# Altium integrated library Linear Technology Operational Amplifiers (LT1000).IntLib: 2280 symbols (part 3 of 79)
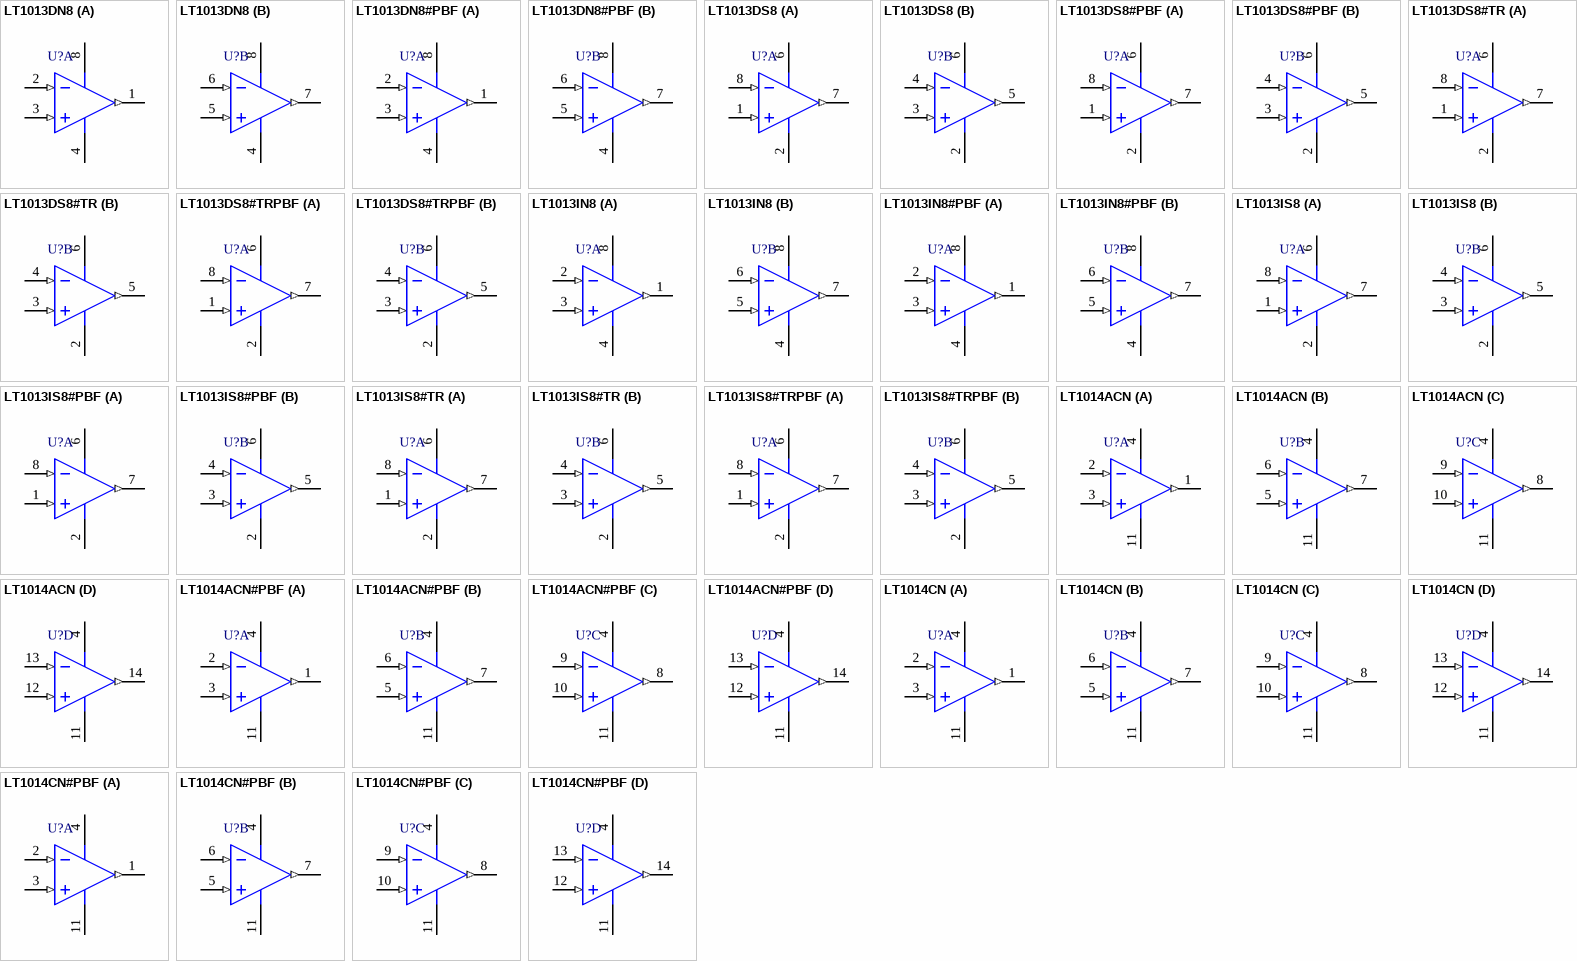
[diagram p107: symbols LT1013DN8 to LT1014CN#PBF]

## LT1013DN8#PBF
designator U?
Dual Channel, Precision Single Supply Operational Amplifier, 0.8 MHz Typical GBW, 0.4 V/us Typical SR, 4 to 44 V, 8-Pin DIP (N8-8), Commerical, Pb-Free; Linear Technology Part Number: LT1013; Manufacturer: Linear Technology; PartNumber: LT1013DN8#PBF; Channels (#): 2; GBW (MHz) Typical: 0.8; Is (mA) Typical: 0.35; SR (V/us) Typical: 0.4; Vos (mV) Typical: 0.04; Vs Max (V): 44; Vs Min (V): 4; DatasheetVersion: Rev. D; PackageVersion: Rev I; PackageReference: LT-N8-8; PackageDescription: 8-Lead PDIP, Body 10.16 x 6.48 mm, Pitch 2.54 mm; Supplier 1: Digi-Key; Supplier Part Number 1: LT1013DN8#PBF-ND; Supplier 2: Farnell; Supplier Part Number 2: 9559299; Supplier 3: Newark; Supplier Part Number 3: 57M0825; RoHS: Pb-Free; Type: VFB; Mounting Technology: Surface Mount; ComponentLink1Description: Manufacturer URL; ComponentLink1URL: http://www.linear.com/; ComponentLink2Description: Datasheet; ComponentLink2URL: http://cds.linear.com/docs/en/datasheet/10134fd.pdf; ComponentLink3Description: Package Specification; ComponentLink3URL: http://cds.linear.com/docs/en/packaging/05081510_I_N8.pdf
footprint LT-N8-8 (DIP, 8-Leads, Body 10.16x6.48mm, Pitch 2.54mm)
pins on every part: 4 V- (power), 8 V+ (power)
part A pins: 1 OUTPUT A (out), 2 -IN A (in), 3 +IN A (in)
part B pins: 5 +IN B (in), 6 -IN B (in), 7 OUTPUT B (out)

## LT1013DS8
designator U?
Dual Channel, Precision Single Supply Operational Amplifier, 0.8 MHz Typical GBW, 0.4 V/us Typical SR, 4 to 44 V, 8-Pin SOIC (S8-8), Commerical; Linear Technology Part Number: LT1013; Manufacturer: Linear Technology; PartNumber: LT1013DS8; Channels (#): 2; GBW (MHz) Typical: 0.8; Is (mA) Typical: 0.35; SR (V/us) Typical: 0.4; Vos (mV) Typical: 0.04; Vs Max (V): 44; Vs Min (V): 4; DatasheetVersion: Rev. D; PackageVersion: Rev G; PackageReference: LT-S8-8; PackageDescription: 8-Pin Plastic Small Outline, Body 4.9 x 3.9 mm, Pitch 1.27 mm; Supplier 1: Digi-Key; Supplier Part Number 1: LT1013DS8-ND; Type: VFB; Mounting Technology: Surface Mount; ComponentLink1Description: Manufacturer URL; ComponentLink1URL: http://www.linear.com/; ComponentLink2Description: Datasheet; ComponentLink2URL: http://cds.linear.com/docs/en/datasheet/10134fd.pdf; ComponentLink3Description: Package Specification; ComponentLink3URL: http://cds.linear.com/docs/en/packaging/05081610_G_SO8.pdf
footprint LT-S8-8_N (SOIC, 8-Leads, Body 4.9x3.9mm, Pitch 1.27mm, IPC Medium Density)
footprint LT-S8-8_L (SOIC, 8-Leads, Body 4.9x3.9mm, Pitch 1.27mm, IPC High Density)
footprint LT-S8-8_M (SOIC, 8-Leads, Body 4.9x3.9mm, Pitch 1.27mm, IPC Low Density)
pins on every part: 2 V- (power), 6 V+ (power)
part A pins: 1 +INA (in), 7 OUTA (out), 8 -INA (in)
part B pins: 3 +INB (in), 4 -INB (in), 5 OUTB (out)

## LT1013DS8#PBF
designator U?
Dual Channel, Precision Single Supply Operational Amplifier, 0.8 MHz Typical GBW, 0.4 V/us Typical SR, 4 to 44 V, 8-Pin SOIC (S8-8), Commerical, Pb-Free; Linear Technology Part Number: LT1013; Manufacturer: Linear Technology; PartNumber: LT1013DS8#PBF; Channels (#): 2; GBW (MHz) Typical: 0.8; Is (mA) Typical: 0.35; SR (V/us) Typical: 0.4; Vos (mV) Typical: 0.04; Vs Max (V): 44; Vs Min (V): 4; DatasheetVersion: Rev. D; PackageVersion: Rev G; PackageReference: LT-S8-8; PackageDescription: 8-Pin Plastic Small Outline, Body 4.9 x 3.9 mm, Pitch 1.27 mm; Supplier 1: Digi-Key; Supplier Part Number 1: LT1013DS8#PBF-ND; Supplier 2: Farnell; Supplier Part Number 2: 9559302; Supplier 3: Newark; Supplier Part Number 3: 57M0827; RoHS: Pb-Free; Type: VFB; Mounting Technology: Surface Mount; ComponentLink1Description: Manufacturer URL; ComponentLink1URL: http://www.linear.com/; ComponentLink2Description: Datasheet; ComponentLink2URL: http://cds.linear.com/docs/en/datasheet/10134fd.pdf; ComponentLink3Description: Package Specification; ComponentLink3URL: http://cds.linear.com/docs/en/packaging/05081610_G_SO8.pdf
footprint LT-S8-8_N (SOIC, 8-Leads, Body 4.9x3.9mm, Pitch 1.27mm, IPC Medium Density)
footprint LT-S8-8_L (SOIC, 8-Leads, Body 4.9x3.9mm, Pitch 1.27mm, IPC High Density)
footprint LT-S8-8_M (SOIC, 8-Leads, Body 4.9x3.9mm, Pitch 1.27mm, IPC Low Density)
pins on every part: 2 V- (power), 6 V+ (power)
part A pins: 1 +INA (in), 7 OUTA (out), 8 -INA (in)
part B pins: 3 +INB (in), 4 -INB (in), 5 OUTB (out)

## LT1013DS8#TR
designator U?
Dual Channel, Precision Single Supply Operational Amplifier, 0.8 MHz Typical GBW, 0.4 V/us Typical SR, 4 to 44 V, 8-Pin SOIC (S8-8), Commerical, Reel; Linear Technology Part Number: LT1013; Manufacturer: Linear Technology; PartNumber: LT1013DS8#TR; Channels (#): 2; GBW (MHz) Typical: 0.8; Is (mA) Typical: 0.35; SR (V/us) Typical: 0.4; Vos (mV) Typical: 0.04; Vs Max (V): 44; Vs Min (V): 4; DatasheetVersion: Rev. D; PackageVersion: Rev G; PackageReference: LT-S8-8; PackageDescription: 8-Pin Plastic Small Outline, Body 4.9 x 3.9 mm, Pitch 1.27 mm; Supplier 1: Digi-Key; Supplier Part Number 1: LT1013DS8TR-ND; Supplier 2: Newark; Supplier Part Number 2: 57M0828; Packing: Reel; Type: VFB; Mounting Technology: Surface Mount; ComponentLink1Description: Manufacturer URL; ComponentLink1URL: http://www.linear.com/; ComponentLink2Description: Datasheet; ComponentLink2URL: http://cds.linear.com/docs/en/datasheet/10134fd.pdf; ComponentLink3Description: Package Specification; ComponentLink3URL: http://cds.linear.com/docs/en/packaging/05081610_G_SO8.pdf
footprint LT-S8-8_N (SOIC, 8-Leads, Body 4.9x3.9mm, Pitch 1.27mm, IPC Medium Density)
footprint LT-S8-8_L (SOIC, 8-Leads, Body 4.9x3.9mm, Pitch 1.27mm, IPC High Density)
footprint LT-S8-8_M (SOIC, 8-Leads, Body 4.9x3.9mm, Pitch 1.27mm, IPC Low Density)
pins on every part: 2 V- (power), 6 V+ (power)
part A pins: 1 +INA (in), 7 OUTA (out), 8 -INA (in)
part B pins: 3 +INB (in), 4 -INB (in), 5 OUTB (out)

## LT1013DS8#TRPBF
designator U?
Dual Channel, Precision Single Supply Operational Amplifier, 0.8 MHz Typical GBW, 0.4 V/us Typical SR, 4 to 44 V, 8-Pin SOIC (S8-8), Commerical, Pb-Free, Reel; Linear Technology Part Number: LT1013; Manufacturer: Linear Technology; PartNumber: LT1013DS8#TRPBF; Channels (#): 2; GBW (MHz) Typical: 0.8; Is (mA) Typical: 0.35; SR (V/us) Typical: 0.4; Vos (mV) Typical: 0.04; Vs Max (V): 44; Vs Min (V): 4; DatasheetVersion: Rev. D; PackageVersion: Rev G; PackageReference: LT-S8-8; PackageDescription: 8-Pin Plastic Small Outline, Body 4.9 x 3.9 mm, Pitch 1.27 mm; Supplier 1: Digi-Key; Supplier Part Number 1: LT1013DS8#TRPBFTR-ND; Supplier 2: Digi-Key; Supplier Part Number 2: LT1013DS8#TRPBFCT-ND; Supplier 3: Digi-Key; Supplier Part Number 3: LT1013DS8#TRPBFDKR-ND; Supplier 4: Newark; Supplier Part Number 4: 57M0829; Packing: Reel; RoHS: Pb-Free; Type: VFB; Mounting Technology: Surface Mount; ComponentLink1Description: Manufacturer URL; ComponentLink1URL: http://www.linear.com/; ComponentLink2Description: Datasheet; ComponentLink2URL: http://cds.linear.com/docs/en/datasheet/10134fd.pdf; ComponentLink3Description: Package Specification; ComponentLink3URL: http://cds.linear.com/docs/en/packaging/05081610_G_SO8.pdf
footprint LT-S8-8_N (SOIC, 8-Leads, Body 4.9x3.9mm, Pitch 1.27mm, IPC Medium Density)
footprint LT-S8-8_L (SOIC, 8-Leads, Body 4.9x3.9mm, Pitch 1.27mm, IPC High Density)
footprint LT-S8-8_M (SOIC, 8-Leads, Body 4.9x3.9mm, Pitch 1.27mm, IPC Low Density)
pins on every part: 2 V- (power), 6 V+ (power)
part A pins: 1 +INA (in), 7 OUTA (out), 8 -INA (in)
part B pins: 3 +INB (in), 4 -INB (in), 5 OUTB (out)

## LT1013IN8
designator U?
Dual Channel, Precision Single Supply Operational Amplifier, 0.8 MHz Typical GBW, 0.4 V/us Typical SR, 4 to 44 V, 8-Pin DIP (N8-8), Industrial; Linear Technology Part Number: LT1013; Manufacturer: Linear Technology; PartNumber: LT1013IN8; Channels (#): 2; GBW (MHz) Typical: 0.8; Is (mA) Typical: 0.35; SR (V/us) Typical: 0.4; Vos (mV) Typical: 0.04; Vs Max (V): 44; Vs Min (V): 4; DatasheetVersion: Rev. D; PackageVersion: Rev I; PackageReference: LT-N8-8; PackageDescription: 8-Lead PDIP, Body 10.16 x 6.48 mm, Pitch 2.54 mm; Supplier 1: Digi-Key; Supplier Part Number 1: LT1013IN8-ND; Supplier 2: Newark; Supplier Part Number 2: 57M0830; Type: VFB; Mounting Technology: Surface Mount; ComponentLink1Description: Manufacturer URL; ComponentLink1URL: http://www.linear.com/; ComponentLink2Description: Datasheet; ComponentLink2URL: http://cds.linear.com/docs/en/datasheet/10134fd.pdf; ComponentLink3Description: Package Specification; ComponentLink3URL: http://cds.linear.com/docs/en/packaging/05081510_I_N8.pdf
footprint LT-N8-8 (DIP, 8-Leads, Body 10.16x6.48mm, Pitch 2.54mm)
pins on every part: 4 V- (power), 8 V+ (power)
part A pins: 1 OUTPUT A (out), 2 -IN A (in), 3 +IN A (in)
part B pins: 5 +IN B (in), 6 -IN B (in), 7 OUTPUT B (out)

## LT1013IN8#PBF
designator U?
Dual Channel, Precision Single Supply Operational Amplifier, 0.8 MHz Typical GBW, 0.4 V/us Typical SR, 4 to 44 V, 8-Pin DIP (N8-8), Industrial, Pb-Free; Linear Technology Part Number: LT1013; Manufacturer: Linear Technology; PartNumber: LT1013IN8#PBF; Channels (#): 2; GBW (MHz) Typical: 0.8; Is (mA) Typical: 0.35; SR (V/us) Typical: 0.4; Vos (mV) Typical: 0.04; Vs Max (V): 44; Vs Min (V): 4; DatasheetVersion: Rev. D; PackageVersion: Rev I; PackageReference: LT-N8-8; PackageDescription: 8-Lead PDIP, Body 10.16 x 6.48 mm, Pitch 2.54 mm; Supplier 1: Digi-Key; Supplier Part Number 1: LT1013IN8#PBF-ND; Supplier 2: Farnell; Supplier Part Number 2: 2211382; Supplier 3: Newark; Supplier Part Number 3: 57M0831; RoHS: Pb-Free; Type: VFB; Mounting Technology: Through Hole; ComponentLink1Description: Manufacturer URL; ComponentLink1URL: http://www.linear.com/; ComponentLink2Description: Datasheet; ComponentLink2URL: http://cds.linear.com/docs/en/datasheet/10134fd.pdf; ComponentLink3Description: Package Specification; ComponentLink3URL: http://cds.linear.com/docs/en/packaging/05081510_I_N8.pdf
footprint LT-N8-8 (DIP, 8-Leads, Body 10.16x6.48mm, Pitch 2.54mm)
pins on every part: 4 V- (power), 8 V+ (power)
part A pins: 1 OUTPUT A (out), 2 -IN A (in), 3 +IN A (in)
part B pins: 5 +IN B (in), 6 -IN B (in), 7 OUTPUT B (out)

## LT1013IS8
designator U?
Dual Channel, Precision Single Supply Operational Amplifier, 0.8 MHz Typical GBW, 0.4 V/us Typical SR, 4 to 44 V, 8-Pin SOIC (S8-8), Industrial; Linear Technology Part Number: LT1013; Manufacturer: Linear Technology; PartNumber: LT1013IS8; Channels (#): 2; GBW (MHz) Typical: 0.8; Is (mA) Typical: 0.35; SR (V/us) Typical: 0.4; Vos (mV) Typical: 0.04; Vs Max (V): 44; Vs Min (V): 4; DatasheetVersion: Rev. D; PackageVersion: Rev G; PackageReference: LT-S8-8; PackageDescription: 8-Pin Plastic Small Outline, Body 4.9 x 3.9 mm, Pitch 1.27 mm; Supplier 1: Digi-Key; Supplier Part Number 1: LT1013IS8-ND; Supplier 2: Newark; Supplier Part Number 2: 57M0832; Type: VFB; Mounting Technology: Surface Mount; ComponentLink1Description: Manufacturer URL; ComponentLink1URL: http://www.linear.com/; ComponentLink2Description: Datasheet; ComponentLink2URL: http://cds.linear.com/docs/en/datasheet/10134fd.pdf; ComponentLink3Description: Package Specification; ComponentLink3URL: http://cds.linear.com/docs/en/packaging/05081610_G_SO8.pdf
footprint LT-S8-8_N (SOIC, 8-Leads, Body 4.9x3.9mm, Pitch 1.27mm, IPC Medium Density)
footprint LT-S8-8_L (SOIC, 8-Leads, Body 4.9x3.9mm, Pitch 1.27mm, IPC High Density)
footprint LT-S8-8_M (SOIC, 8-Leads, Body 4.9x3.9mm, Pitch 1.27mm, IPC Low Density)
pins on every part: 2 V- (power), 6 V+ (power)
part A pins: 1 +INA (in), 7 OUTA (out), 8 -INA (in)
part B pins: 3 +INB (in), 4 -INB (in), 5 OUTB (out)

## LT1013IS8#PBF
designator U?
Dual Channel, Precision Single Supply Operational Amplifier, 0.8 MHz Typical GBW, 0.4 V/us Typical SR, 4 to 44 V, 8-Pin SOIC (S8-8), Industrial, Pb-Free; Linear Technology Part Number: LT1013; Manufacturer: Linear Technology; PartNumber: LT1013IS8#PBF; Channels (#): 2; GBW (MHz) Typical: 0.8; Is (mA) Typical: 0.35; SR (V/us) Typical: 0.4; Vos (mV) Typical: 0.04; Vs Max (V): 44; Vs Min (V): 4; DatasheetVersion: Rev. D; PackageVersion: Rev G; PackageReference: LT-S8-8; PackageDescription: 8-Pin Plastic Small Outline, Body 4.9 x 3.9 mm, Pitch 1.27 mm; Supplier 1: Digi-Key; Supplier Part Number 1: LT1013IS8#PBF-ND; Supplier 2: Farnell; Supplier Part Number 2: 2102618; Supplier 3: Newark; Supplier Part Number 3: 57M0833; RoHS: Pb-Free; Type: VFB; Mounting Technology: Surface Mount; ComponentLink1Description: Manufacturer URL; ComponentLink1URL: http://www.linear.com/; ComponentLink2Description: Datasheet; ComponentLink2URL: http://cds.linear.com/docs/en/datasheet/10134fd.pdf; ComponentLink3Description: Package Specification; ComponentLink3URL: http://cds.linear.com/docs/en/packaging/05081610_G_SO8.pdf
footprint LT-S8-8_N (SOIC, 8-Leads, Body 4.9x3.9mm, Pitch 1.27mm, IPC Medium Density)
footprint LT-S8-8_L (SOIC, 8-Leads, Body 4.9x3.9mm, Pitch 1.27mm, IPC High Density)
footprint LT-S8-8_M (SOIC, 8-Leads, Body 4.9x3.9mm, Pitch 1.27mm, IPC Low Density)
pins on every part: 2 V- (power), 6 V+ (power)
part A pins: 1 +INA (in), 7 OUTA (out), 8 -INA (in)
part B pins: 3 +INB (in), 4 -INB (in), 5 OUTB (out)

## LT1013IS8#TR
designator U?
Dual Channel, Precision Single Supply Operational Amplifier, 0.8 MHz Typical GBW, 0.4 V/us Typical SR, 4 to 44 V, 8-Pin SOIC (S8-8), Industrial, Reel; Linear Technology Part Number: LT1013; Manufacturer: Linear Technology; PartNumber: LT1013IS8#TR; Channels (#): 2; GBW (MHz) Typical: 0.8; Is (mA) Typical: 0.35; SR (V/us) Typical: 0.4; Vos (mV) Typical: 0.04; Vs Max (V): 44; Vs Min (V): 4; DatasheetVersion: Rev. D; PackageVersion: Rev G; PackageReference: LT-S8-8; PackageDescription: 8-Pin Plastic Small Outline, Body 4.9 x 3.9 mm, Pitch 1.27 mm; Supplier 1: Digi-Key; Supplier Part Number 1: LT1013IS8#TR-ND; Supplier 2: Newark; Supplier Part Number 2: 57M0834; Packing: Reel; Type: VFB; Mounting Technology: Surface Mount; ComponentLink1Description: Manufacturer URL; ComponentLink1URL: http://www.linear.com/; ComponentLink2Description: Datasheet; ComponentLink2URL: http://cds.linear.com/docs/en/datasheet/10134fd.pdf; ComponentLink3Description: Package Specification; ComponentLink3URL: http://cds.linear.com/docs/en/packaging/05081610_G_SO8.pdf
footprint LT-S8-8_N (SOIC, 8-Leads, Body 4.9x3.9mm, Pitch 1.27mm, IPC Medium Density)
footprint LT-S8-8_L (SOIC, 8-Leads, Body 4.9x3.9mm, Pitch 1.27mm, IPC High Density)
footprint LT-S8-8_M (SOIC, 8-Leads, Body 4.9x3.9mm, Pitch 1.27mm, IPC Low Density)
pins on every part: 2 V- (power), 6 V+ (power)
part A pins: 1 +INA (in), 7 OUTA (out), 8 -INA (in)
part B pins: 3 +INB (in), 4 -INB (in), 5 OUTB (out)

## LT1013IS8#TRPBF
designator U?
Dual Channel, Precision Single Supply Operational Amplifier, 0.8 MHz Typical GBW, 0.4 V/us Typical SR, 4 to 44 V, 8-Pin SOIC (S8-8), Industrial, Pb-Free, Reel; Linear Technology Part Number: LT1013; Manufacturer: Linear Technology; PartNumber: LT1013IS8#TRPBF; Channels (#): 2; GBW (MHz) Typical: 0.8; Is (mA) Typical: 0.35; SR (V/us) Typical: 0.4; Vos (mV) Typical: 0.04; Vs Max (V): 44; Vs Min (V): 4; DatasheetVersion: Rev. D; PackageVersion: Rev G; PackageReference: LT-S8-8; PackageDescription: 8-Pin Plastic Small Outline, Body 4.9 x 3.9 mm, Pitch 1.27 mm; Supplier 1: Digi-Key; Supplier Part Number 1: LT1013IS8#TRPBF-ND; Supplier 2: Newark; Supplier Part Number 2: 57M0835; Packing: Reel; RoHS: Pb-Free; Type: VFB; Mounting Technology: Surface Mount; ComponentLink1Description: Manufacturer URL; ComponentLink1URL: http://www.linear.com/; ComponentLink2Description: Datasheet; ComponentLink2URL: http://cds.linear.com/docs/en/datasheet/10134fd.pdf; ComponentLink3Description: Package Specification; ComponentLink3URL: http://cds.linear.com/docs/en/packaging/05081610_G_SO8.pdf
footprint LT-S8-8_N (SOIC, 8-Leads, Body 4.9x3.9mm, Pitch 1.27mm, IPC Medium Density)
footprint LT-S8-8_L (SOIC, 8-Leads, Body 4.9x3.9mm, Pitch 1.27mm, IPC High Density)
footprint LT-S8-8_M (SOIC, 8-Leads, Body 4.9x3.9mm, Pitch 1.27mm, IPC Low Density)
pins on every part: 2 V- (power), 6 V+ (power)
part A pins: 1 +INA (in), 7 OUTA (out), 8 -INA (in)
part B pins: 3 +INB (in), 4 -INB (in), 5 OUTB (out)

## LT1014ACN
designator U?
Quad Channel, Precision Single Supply Operational Amplifier, 0.8 MHz Typical GBW, 0.4 V/us Typical SR, 4 to 44 V, 14-Pin DIP (N-14), Commerical; Linear Technology Part Number: LT1014; Manufacturer: Linear Technology; PartNumber: LT1014ACN; Channels (#): 4; GBW (MHz) Typical: 0.8; Is (mA) Typical: 0.35; SR (V/us) Typical: 0.4; Vos (mV) Typical: 0.04; Vs Max (V): 44; DatasheetVersion: Rev. D; PackageVersion: Rev I; PackageReference: LT-N-14; PackageDescription: 14-Lead PDIP, Body 19.558 x 6.477 mm, Pitch 2.54 mm; Supplier 1: Digi-Key; Supplier Part Number 1: LT1014ACN-ND; Supplier 2: Newark; Supplier Part Number 2: 57M0836; Type: VFB; Vs Min (V): 4; Mounting Technology: Through Hole; ComponentLink1Description: Manufacturer URL; ComponentLink1URL: http://www.linear.com/; ComponentLink2Description: Datasheet; ComponentLink2URL: http://cds.linear.com/docs/en/datasheet/10134fd.pdf; ComponentLink3Description: Package Specification; ComponentLink3URL: http://cds.linear.com/docs/en/packaging/05081510_I_N14.pdf
footprint LT-N-14 (DIP, 14-Leads, Body 19.558x6.477mm, Pitch 2.54mm)
pins on every part: 4 V+ (power), 11 V- (power)
part A pins: 1 OUTPUT A (out), 2 -IN A (in), 3 +IN A (in)
part B pins: 5 +IN B (in), 6 -IN B (in), 7 OUTPUT B (out)
part C pins: 8 OUTPUT C (out), 9 -IN C (in), 10 +IN C (in)
part D pins: 12 +IN D (in), 13 -IN D (in), 14 OUTPUT D (out)

## LT1014ACN#PBF
designator U?
Quad Channel, Precision Single Supply Operational Amplifier, 0.8 MHz Typical GBW, 0.4 V/us Typical SR, 4 to 44 V, 14-Pin DIP (N-14), Commerical, Pb-Free; Linear Technology Part Number: LT1014; Manufacturer: Linear Technology; PartNumber: LT1014ACN#PBF; Channels (#): 4; GBW (MHz) Typical: 0.8; Is (mA) Typical: 0.35; SR (V/us) Typical: 0.4; Vos (mV) Typical: 0.04; Vs Max (V): 44; DatasheetVersion: Rev. D; PackageVersion: Rev I; PackageReference: LT-N-14; PackageDescription: 14-Lead PDIP, Body 19.558 x 6.477 mm, Pitch 2.54 mm; Supplier 1: Digi-Key; Supplier Part Number 1: LT1014ACN#PBF-ND; Supplier 2: Farnell; Supplier Part Number 2: 2211383; Supplier 3: Newark; Supplier Part Number 3: 57M0837; RoHS: Pb-Free; Type: VFB; Vs Min (V): 4; Mounting Technology: Through Hole; ComponentLink1Description: Manufacturer URL; ComponentLink1URL: http://www.linear.com/; ComponentLink2Description: Datasheet; ComponentLink2URL: http://cds.linear.com/docs/en/datasheet/10134fd.pdf; ComponentLink3Description: Package Specification; ComponentLink3URL: http://cds.linear.com/docs/en/packaging/05081510_I_N14.pdf
footprint LT-N-14 (DIP, 14-Leads, Body 19.558x6.477mm, Pitch 2.54mm)
pins on every part: 4 V+ (power), 11 V- (power)
part A pins: 1 OUTPUT A (out), 2 -IN A (in), 3 +IN A (in)
part B pins: 5 +IN B (in), 6 -IN B (in), 7 OUTPUT B (out)
part C pins: 8 OUTPUT C (out), 9 -IN C (in), 10 +IN C (in)
part D pins: 12 +IN D (in), 13 -IN D (in), 14 OUTPUT D (out)

## LT1014CN
designator U?
Quad Channel, Precision Single Supply Operational Amplifier, 0.8 MHz Typical GBW, 0.4 V/us Typical SR, 4 to 44 V, 14-Pin DIP (N-14), Commerical; Linear Technology Part Number: LT1014; Manufacturer: Linear Technology; PartNumber: LT1014CN; Channels (#): 4; GBW (MHz) Typical: 0.8; Is (mA) Typical: 0.35; SR (V/us) Typical: 0.4; Vos (mV) Typical: 0.04; Vs Max (V): 44; DatasheetVersion: Rev. D; PackageVersion: Rev I; PackageReference: LT-N-14; PackageDescription: 14-Lead PDIP, Body 19.558 x 6.477 mm, Pitch 2.54 mm; Supplier 1: Digi-Key; Supplier Part Number 1: LT1014CNLT-ND; Supplier 2: Newark; Supplier Part Number 2: 57M0838; Type: VFB; Vs Min (V): 4; Mounting Technology: Through Hole; ComponentLink1Description: Manufacturer URL; ComponentLink1URL: http://www.linear.com/; ComponentLink2Description: Datasheet; ComponentLink2URL: http://cds.linear.com/docs/en/datasheet/10134fd.pdf; ComponentLink3Description: Package Specification; ComponentLink3URL: http://cds.linear.com/docs/en/packaging/05081510_I_N14.pdf
footprint LT-N-14 (DIP, 14-Leads, Body 19.558x6.477mm, Pitch 2.54mm)
pins on every part: 4 V+ (power), 11 V- (power)
part A pins: 1 OUTPUT A (out), 2 -IN A (in), 3 +IN A (in)
part B pins: 5 +IN B (in), 6 -IN B (in), 7 OUTPUT B (out)
part C pins: 8 OUTPUT C (out), 9 -IN C (in), 10 +IN C (in)
part D pins: 12 +IN D (in), 13 -IN D (in), 14 OUTPUT D (out)

## LT1014CN#PBF
designator U?
Quad Channel, Precision Single Supply Operational Amplifier, 0.8 MHz Typical GBW, 0.4 V/us Typical SR, 4 to 44 V, 14-Pin DIP (N-14), Commerical, Pb-Free; Linear Technology Part Number: LT1014; Manufacturer: Linear Technology; PartNumber: LT1014CN#PBF; Channels (#): 4; GBW (MHz) Typical: 0.8; Is (mA) Typical: 0.35; SR (V/us) Typical: 0.4; Vos (mV) Typical: 0.04; Vs Max (V): 44; DatasheetVersion: Rev. D; PackageVersion: Rev I; PackageReference: LT-N-14; PackageDescription: 14-Lead PDIP, Body 19.558 x 6.477 mm, Pitch 2.54 mm; Supplier 1: Digi-Key; Supplier Part Number 1: LT1014CN#PBF-ND; Supplier 2: Farnell; Supplier Part Number 2: 9559310; Supplier 3: Newark; Supplier Part Number 3: 57M0839; RoHS: Pb-Free; Type: VFB; Vs Min (V): 4; Mounting Technology: Through Hole; ComponentLink1Description: Manufacturer URL; ComponentLink1URL: http://www.linear.com/; ComponentLink2Description: Datasheet; ComponentLink2URL: http://cds.linear.com/docs/en/datasheet/10134fd.pdf; ComponentLink3Description: Package Specification; ComponentLink3URL: http://cds.linear.com/docs/en/packaging/05081510_I_N14.pdf
footprint LT-N-14 (DIP, 14-Leads, Body 19.558x6.477mm, Pitch 2.54mm)
pins on every part: 4 V+ (power), 11 V- (power)
part A pins: 1 OUTPUT A (out), 2 -IN A (in), 3 +IN A (in)
part B pins: 5 +IN B (in), 6 -IN B (in), 7 OUTPUT B (out)
part C pins: 8 OUTPUT C (out), 9 -IN C (in), 10 +IN C (in)
part D pins: 12 +IN D (in), 13 -IN D (in), 14 OUTPUT D (out)

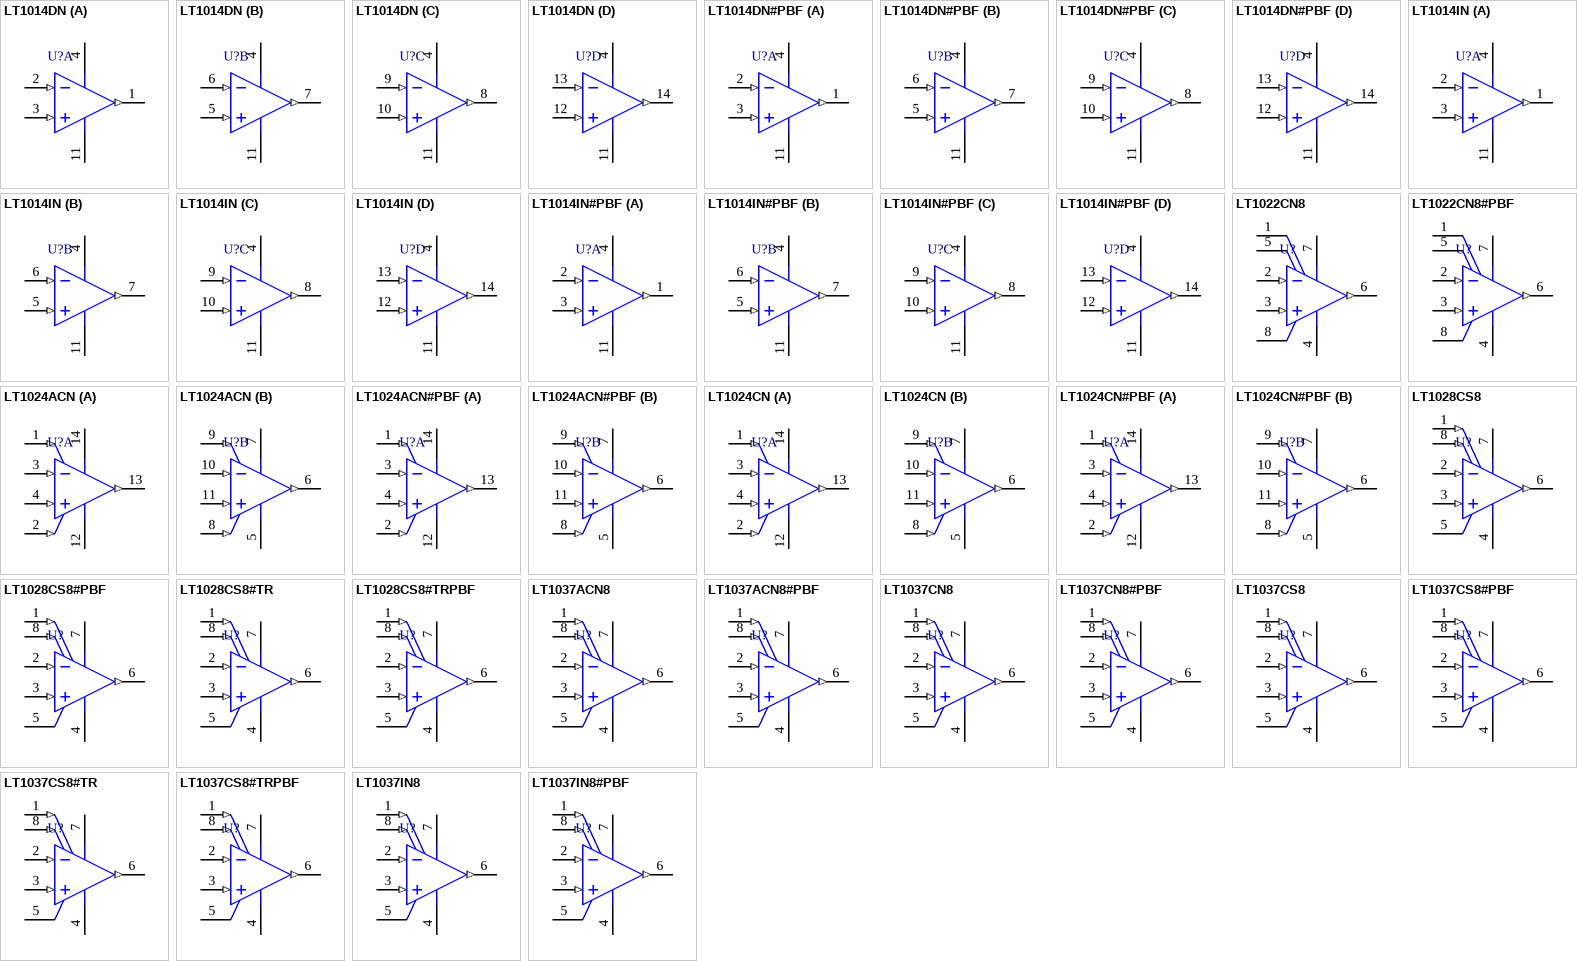
[diagram p3: symbols LT1014DN to LT1037IN8#PBF]

## LT1014DN
designator U?
Quad Channel, Precision Single Supply Operational Amplifier, 0.8 MHz Typical GBW, 0.4 V/us Typical SR, 4 to 44 V, 14-Pin DIP (N-14), Commerical; Linear Technology Part Number: LT1014; Manufacturer: Linear Technology; PartNumber: LT1014DN; Channels (#): 4; GBW (MHz) Typical: 0.8; Is (mA) Typical: 0.35; SR (V/us) Typical: 0.4; Vos (mV) Typical: 0.04; Vs Max (V): 44; DatasheetVersion: Rev. D; PackageVersion: Rev I; PackageReference: LT-N-14; PackageDescription: 14-Lead PDIP, Body 19.558 x 6.477 mm, Pitch 2.54 mm; Supplier 1: Digi-Key; Supplier Part Number 1: LT1014DNLT-ND; Supplier 2: Newark; Supplier Part Number 2: 57M0840; Type: VFB; Vs Min (V): 4; Mounting Technology: Surface Mount; ComponentLink1Description: Manufacturer URL; ComponentLink1URL: http://www.linear.com/; ComponentLink2Description: Datasheet; ComponentLink2URL: http://cds.linear.com/docs/en/datasheet/10134fd.pdf; ComponentLink3Description: Package Specification; ComponentLink3URL: http://cds.linear.com/docs/en/packaging/05081510_I_N14.pdf
footprint LT-N-14 (DIP, 14-Leads, Body 19.558x6.477mm, Pitch 2.54mm)
pins on every part: 4 V+ (power), 11 V- (power)
part A pins: 1 OUTPUT A (out), 2 -IN A (in), 3 +IN A (in)
part B pins: 5 +IN B (in), 6 -IN B (in), 7 OUTPUT B (out)
part C pins: 8 OUTPUT C (out), 9 -IN C (in), 10 +IN C (in)
part D pins: 12 +IN D (in), 13 -IN D (in), 14 OUTPUT D (out)

## LT1014DN#PBF
designator U?
Quad Channel, Precision Single Supply Operational Amplifier, 0.8 MHz Typical GBW, 0.4 V/us Typical SR, 4 to 44 V, 14-Pin DIP (N-14), Commerical, Pb-Free; Linear Technology Part Number: LT1014; Manufacturer: Linear Technology; PartNumber: LT1014DN#PBF; Channels (#): 4; GBW (MHz) Typical: 0.8; Is (mA) Typical: 0.35; SR (V/us) Typical: 0.4; Vos (mV) Typical: 0.04; Vs Max (V): 44; DatasheetVersion: Rev. D; PackageVersion: Rev I; PackageReference: LT-N-14; PackageDescription: 14-Lead PDIP, Body 19.558 x 6.477 mm, Pitch 2.54 mm; Supplier 1: Digi-Key; Supplier Part Number 1: LT1014DN#PBF-ND; Supplier 2: Farnell; Supplier Part Number 2: 9559329; Supplier 3: Newark; Supplier Part Number 3: 57M0841; RoHS: Pb-Free; Type: VFB; Vs Min (V): 4; Mounting Technology: Surface Mount; ComponentLink1Description: Manufacturer URL; ComponentLink1URL: http://www.linear.com/; ComponentLink2Description: Datasheet; ComponentLink2URL: http://cds.linear.com/docs/en/datasheet/10134fd.pdf; ComponentLink3Description: Package Specification; ComponentLink3URL: http://cds.linear.com/docs/en/packaging/05081510_I_N14.pdf
footprint LT-N-14 (DIP, 14-Leads, Body 19.558x6.477mm, Pitch 2.54mm)
pins on every part: 4 V+ (power), 11 V- (power)
part A pins: 1 OUTPUT A (out), 2 -IN A (in), 3 +IN A (in)
part B pins: 5 +IN B (in), 6 -IN B (in), 7 OUTPUT B (out)
part C pins: 8 OUTPUT C (out), 9 -IN C (in), 10 +IN C (in)
part D pins: 12 +IN D (in), 13 -IN D (in), 14 OUTPUT D (out)

## LT1014IN
designator U?
Quad Channel, Precision Single Supply Operational Amplifier, 0.8 MHz Typical GBW, 0.4 V/us Typical SR, 4 to 44 V, 14-Pin DIP (N-14), Industrial; Linear Technology Part Number: LT1014; Manufacturer: Linear Technology; PartNumber: LT1014IN; Channels (#): 4; GBW (MHz) Typical: 0.8; Is (mA) Typical: 0.35; SR (V/us) Typical: 0.4; Vos (mV) Typical: 0.04; Vs Max (V): 44; DatasheetVersion: Rev. D; PackageVersion: Rev I; PackageReference: LT-N-14; PackageDescription: 14-Lead PDIP, Body 19.558 x 6.477 mm, Pitch 2.54 mm; Supplier 1: Digi-Key; Supplier Part Number 1: LT1014IN-ND; Supplier 2: Newark; Supplier Part Number 2: 57M0846; Type: VFB; Vs Min (V): 4; Mounting Technology: Surface Mount; ComponentLink1Description: Manufacturer URL; ComponentLink1URL: http://www.linear.com/; ComponentLink2Description: Datasheet; ComponentLink2URL: http://cds.linear.com/docs/en/datasheet/10134fd.pdf; ComponentLink3Description: Package Specification; ComponentLink3URL: http://cds.linear.com/docs/en/packaging/05081510_I_N14.pdf
footprint LT-N-14 (DIP, 14-Leads, Body 19.558x6.477mm, Pitch 2.54mm)
pins on every part: 4 V+ (power), 11 V- (power)
part A pins: 1 OUTPUT A (out), 2 -IN A (in), 3 +IN A (in)
part B pins: 5 +IN B (in), 6 -IN B (in), 7 OUTPUT B (out)
part C pins: 8 OUTPUT C (out), 9 -IN C (in), 10 +IN C (in)
part D pins: 12 +IN D (in), 13 -IN D (in), 14 OUTPUT D (out)

## LT1014IN#PBF
designator U?
Quad Channel, Precision Single Supply Operational Amplifier, 0.8 MHz Typical GBW, 0.4 V/us Typical SR, 4 to 44 V, 14-Pin DIP (N-14), Industrial, Pb-Free; Linear Technology Part Number: LT1014; Manufacturer: Linear Technology; PartNumber: LT1014IN#PBF; Channels (#): 4; GBW (MHz) Typical: 0.8; Is (mA) Typical: 0.35; SR (V/us) Typical: 0.4; Vos (mV) Typical: 0.04; Vs Max (V): 44; DatasheetVersion: Rev. D; PackageVersion: Rev I; PackageReference: LT-N-14; PackageDescription: 14-Lead PDIP, Body 19.558 x 6.477 mm, Pitch 2.54 mm; Supplier 1: Digi-Key; Supplier Part Number 1: LT1014IN#PBF-ND; Supplier 2: Farnell; Supplier Part Number 2: 1556425; Supplier 3: Newark; Supplier Part Number 3: 57M0847; RoHS: Pb-Free; Type: VFB; Vs Min (V): 4; Mounting Technology: Surface Mount; ComponentLink1Description: Manufacturer URL; ComponentLink1URL: http://www.linear.com/; ComponentLink2Description: Datasheet; ComponentLink2URL: http://cds.linear.com/docs/en/datasheet/10134fd.pdf; ComponentLink3Description: Package Specification; ComponentLink3URL: http://cds.linear.com/docs/en/packaging/05081510_I_N14.pdf
footprint LT-N-14 (DIP, 14-Leads, Body 19.558x6.477mm, Pitch 2.54mm)
pins on every part: 4 V+ (power), 11 V- (power)
part A pins: 1 OUTPUT A (out), 2 -IN A (in), 3 +IN A (in)
part B pins: 5 +IN B (in), 6 -IN B (in), 7 OUTPUT B (out)
part C pins: 8 OUTPUT C (out), 9 -IN C (in), 10 +IN C (in)
part D pins: 12 +IN D (in), 13 -IN D (in), 14 OUTPUT D (out)

## LT1022CN8
designator U?
Single Channel, High Speed JFET Operational Amplifier, 8.5 MHz Typical GBW, 26 V/us Typical SR, 20 to 40 V, 8-Pin DIP (N8-8), Commercial; Linear Technology Part Number: LT1022; Manufacturer: Linear Technology; PartNumber: LT1022CN8; Channels (#): 1; GBW (MHz) Typical: 8.5; Is (mA) Typical: 5.2; SR (V/us) Typical: 26; Vos (mV) Typical: 0.08; Vs Max (V): 40; Vs Min (V): 20; DatasheetVersion: Rev. A; PackageVersion: Rev I; PackageReference: LT-N8-8; PackageDescription: 8-Lead PDIP, Body 10.16 x 6.48 mm, Pitch 2.54 mm; Supplier 1: Digi-Key; Supplier Part Number 1: LT1022CN8-ND; Type: JFET; Mounting Technology: Through Hole; ComponentLink1Description: Manufacturer URL; ComponentLink1URL: http://www.linear.com/; ComponentLink2Description: Datasheet; ComponentLink2URL: http://cds.linear.com/docs/en/datasheet/lt1022fa.pdf; ComponentLink3Description: Package Specification; ComponentLink3URL: http://cds.linear.com/docs/en/packaging/05081510_I_N8.pdf
footprint LT-N8-8 (DIP, 8-Leads, Body 10.16x6.48mm, Pitch 2.54mm)
pins: 1 BAL, 2 -IN (in), 3 +IN (in), 4 V- (power), 5 BAL, 6 OUT (out), 7 V+ (power), 8 NC

## LT1022CN8#PBF
designator U?
Single Channel, High Speed JFET Operational Amplifier, 8.5 MHz Typical GBW, 26 V/us Typical SR, 20 to 40 V, 8-Pin DIP (N8-8), Commercial, Pb-Free; Linear Technology Part Number: LT1022; Manufacturer: Linear Technology; PartNumber: LT1022CN8#PBF; Channels (#): 1; GBW (MHz) Typical: 8.5; Is (mA) Typical: 5.2; SR (V/us) Typical: 26; Vos (mV) Typical: 0.08; Vs Max (V): 40; Vs Min (V): 20; DatasheetVersion: Rev. A; PackageVersion: Rev I; PackageReference: LT-N8-8; PackageDescription: 8-Lead PDIP, Body 10.16 x 6.48 mm, Pitch 2.54 mm; Supplier 1: Digi-Key; Supplier Part Number 1: LT1022CN8#PBF-ND; Supplier 2: Newark; Supplier Part Number 2: 57M1009; RoHS: Pb-Free; Type: JFET; Mounting Technology: Through Hole; ComponentLink1Description: Manufacturer URL; ComponentLink1URL: http://www.linear.com/; ComponentLink2Description: Datasheet; ComponentLink2URL: http://cds.linear.com/docs/en/datasheet/lt1022fa.pdf; ComponentLink3Description: Package Specification; ComponentLink3URL: http://cds.linear.com/docs/en/packaging/05081510_I_N8.pdf
footprint LT-N8-8 (DIP, 8-Leads, Body 10.16x6.48mm, Pitch 2.54mm)
pins: 1 BAL, 2 -IN (in), 3 +IN (in), 4 V- (power), 5 BAL, 6 OUT (out), 7 V+ (power), 8 NC

## LT1024ACN
designator U?
Dual Channel, Low Vos, Low Power Operational Amplifier, 1 MHz Typical GBW, 0.2 V/us Typical SR, 4 to 40 V, 14-Pin DIP (N-14), Commerical; Linear Technology Part Number: LT1024; Manufacturer: Linear Technology; PartNumber: LT1024ACN; Channels (#): 2; GBW (MHz) Typical: 1; Is (mA) Typical: 0.38; SR (V/us) Typical: 0.2; Vos (mV) Typical: 0.015; Vs Max (V): 40; Vs Min (V): 4; DatasheetVersion: Rev. A; PackageVersion: Rev I; PackageReference: LT-N-14; PackageDescription: 14-Lead PDIP, Body 19.558 x 6.477 mm, Pitch 2.54 mm; Supplier 1: Digi-Key; Supplier Part Number 1: LT1024ACN-ND; Type: VFB; Mounting Technology: Through Hole; ComponentLink1Description: Manufacturer URL; ComponentLink1URL: http://www.linear.com/; ComponentLink2Description: Datasheet; ComponentLink2URL: http://cds.linear.com/docs/en/datasheet/lt1024fa.pdf; ComponentLink3Description: Package Specification; ComponentLink3URL: http://cds.linear.com/docs/en/packaging/05081510_I_N14.pdf
footprint LT-N-14 (DIP, 14-Leads, Body 19.558x6.477mm, Pitch 2.54mm)
part A pins: 1 NULL (A) (in), 2 NULL (A) (in), 3 -IN (A) (in), 4 +IN (A) (in), 12 V- (A) (power), 13 OUT (A) (out), 14 V+ (A) (power)
part B pins: 5 V- (B) (power), 6 OUT (B) (out), 7 V+ (B) (power), 8 NULL (B) (in), 9 NULL (B) (in), 10 -IN (B) (in), 11 +IN (B) (in)

## LT1024ACN#PBF
designator U?
Dual Channel, Low Vos, Low Power Operational Amplifier, 1 MHz Typical GBW, 0.2 V/us Typical SR, 4 to 40 V, 14-Pin DIP (N-14), Commerical, Pb-Free; Linear Technology Part Number: LT1024; Manufacturer: Linear Technology; PartNumber: LT1024ACN#PBF; Channels (#): 2; GBW (MHz) Typical: 1; Is (mA) Typical: 0.38; SR (V/us) Typical: 0.2; Vos (mV) Typical: 0.015; Vs Max (V): 40; Vs Min (V): 4; DatasheetVersion: Rev. A; PackageVersion: Rev I; PackageReference: LT-N-14; PackageDescription: 14-Lead PDIP, Body 19.558 x 6.477 mm, Pitch 2.54 mm; Supplier 1: Digi-Key; Supplier Part Number 1: LT1024ACN#PBF-ND; Supplier 2: Newark; Supplier Part Number 2: 57M1011; RoHS: Pb-Free; Type: VFB; Mounting Technology: Through Hole; ComponentLink1Description: Manufacturer URL; ComponentLink1URL: http://www.linear.com/; ComponentLink2Description: Datasheet; ComponentLink2URL: http://cds.linear.com/docs/en/datasheet/lt1024fa.pdf; ComponentLink3Description: Package Specification; ComponentLink3URL: http://cds.linear.com/docs/en/packaging/05081510_I_N14.pdf
footprint LT-N-14 (DIP, 14-Leads, Body 19.558x6.477mm, Pitch 2.54mm)
part A pins: 1 NULL (A) (in), 2 NULL (A) (in), 3 -IN (A) (in), 4 +IN (A) (in), 12 V- (A) (power), 13 OUT (A) (out), 14 V+ (A) (power)
part B pins: 5 V- (B) (power), 6 OUT (B) (out), 7 V+ (B) (power), 8 NULL (B) (in), 9 NULL (B) (in), 10 -IN (B) (in), 11 +IN (B) (in)

## LT1024CN
designator U?
Dual Channel, Low Vos, Low Power Operational Amplifier, 1 MHz Typical GBW, 0.2 V/us Typical SR, 4 to 40 V, 14-Pin DIP (N-14), Commerical; Linear Technology Part Number: LT1024; Manufacturer: Linear Technology; PartNumber: LT1024CN; Channels (#): 2; GBW (MHz) Typical: 1; Is (mA) Typical: 0.38; SR (V/us) Typical: 0.2; Vos (mV) Typical: 0.015; Vs Max (V): 40; Vs Min (V): 4; DatasheetVersion: Rev. A; PackageVersion: Rev I; PackageReference: LT-N-14; PackageDescription: 14-Lead PDIP, Body 19.558 x 6.477 mm, Pitch 2.54 mm; Supplier 1: Digi-Key; Supplier Part Number 1: LT1024CN-ND; Type: VFB; Mounting Technology: Through Hole; ComponentLink1Description: Manufacturer URL; ComponentLink1URL: http://www.linear.com/; ComponentLink2Description: Datasheet; ComponentLink2URL: http://cds.linear.com/docs/en/datasheet/lt1024fa.pdf; ComponentLink3Description: Package Specification; ComponentLink3URL: http://cds.linear.com/docs/en/packaging/05081510_I_N14.pdf
footprint LT-N-14 (DIP, 14-Leads, Body 19.558x6.477mm, Pitch 2.54mm)
part A pins: 1 NULL (A) (in), 2 NULL (A) (in), 3 -IN (A) (in), 4 +IN (A) (in), 12 V- (A) (power), 13 OUT (A) (out), 14 V+ (A) (power)
part B pins: 5 V- (B) (power), 6 OUT (B) (out), 7 V+ (B) (power), 8 NULL (B) (in), 9 NULL (B) (in), 10 -IN (B) (in), 11 +IN (B) (in)

## LT1024CN#PBF
designator U?
Dual Channel, Low Vos, Low Power Operational Amplifier, 1 MHz Typical GBW, 0.2 V/us Typical SR, 4 to 40 V, 14-Pin DIP (N-14), Commerical, Pb-Free; Linear Technology Part Number: LT1024; Manufacturer: Linear Technology; PartNumber: LT1024CN#PBF; Channels (#): 2; GBW (MHz) Typical: 1; Is (mA) Typical: 0.38; SR (V/us) Typical: 0.2; Vos (mV) Typical: 0.015; Vs Max (V): 40; Vs Min (V): 4; DatasheetVersion: Rev. A; PackageVersion: Rev I; PackageReference: LT-N-14; PackageDescription: 14-Lead PDIP, Body 19.558 x 6.477 mm, Pitch 2.54 mm; Supplier 1: Digi-Key; Supplier Part Number 1: LT1024CN#PBF-ND; Supplier 2: Farnell; Supplier Part Number 2: 1330566; Supplier 3: Newark; Supplier Part Number 3: 57M1013; RoHS: Pb-Free; Type: VFB; Mounting Technology: Surface Mount; ComponentLink1Description: Manufacturer URL; ComponentLink1URL: http://www.linear.com/; ComponentLink2Description: Datasheet; ComponentLink2URL: http://cds.linear.com/docs/en/datasheet/lt1024fa.pdf; ComponentLink3Description: Package Specification; ComponentLink3URL: http://cds.linear.com/docs/en/packaging/05081510_I_N14.pdf
footprint LT-N-14 (DIP, 14-Leads, Body 19.558x6.477mm, Pitch 2.54mm)
part A pins: 1 NULL (A) (in), 2 NULL (A) (in), 3 -IN (A) (in), 4 +IN (A) (in), 12 V- (A) (power), 13 OUT (A) (out), 14 V+ (A) (power)
part B pins: 5 V- (B) (power), 6 OUT (B) (out), 7 V+ (B) (power), 8 NULL (B) (in), 9 NULL (B) (in), 10 -IN (B) (in), 11 +IN (B) (in)

## LT1028CS8
designator U?
Single Channel, Low Noise, Low Drift Operational Amplifier, 75 MHz Typical GBW, 15 V/us Typical SR, 8 to 44 V, 8-Pin SOIC (S8-8), Commerical; Linear Technology Part Number: LT1028; Manufacturer: Linear Technology; PartNumber: LT1028CS8; Channels (#): 1; GBW (MHz) Typical: 75; Is (mA) Typical: 7.4; SR (V/us) Typical: 15; Vos (mV) Typical: 0.01; Vs Max (V): 44; Vs Min (V): 8; DatasheetVersion: Rev. B; PackageVersion: Rev G; PackageReference: LT-S8-8; PackageDescription: 8-Pin Plastic Small Outline, Body 4.9 x 3.9 mm, Pitch 1.27 mm; Supplier 1: Digi-Key; Supplier Part Number 1: LT1028CS8-ND; Supplier 2: Newark; Supplier Part Number 2: 57M1060; Type: VFB; Mounting Technology: Surface Mount; ComponentLink1Description: Manufacturer URL; ComponentLink1URL: http://www.linear.com/; ComponentLink2Description: Datasheet; ComponentLink2URL: http://cds.linear.com/docs/en/datasheet/1028fb.pdf; ComponentLink3Description: Package Specification; ComponentLink3URL: http://cds.linear.com/docs/en/packaging/05081610_G_SO8.pdf
footprint LT-S8-8_N (SOIC, 8-Leads, Body 4.9x3.9mm, Pitch 1.27mm, IPC Medium Density)
footprint LT-S8-8_L (SOIC, 8-Leads, Body 4.9x3.9mm, Pitch 1.27mm, IPC High Density)
footprint LT-S8-8_M (SOIC, 8-Leads, Body 4.9x3.9mm, Pitch 1.27mm, IPC Low Density)
pins: 1 VOS TRIM (in), 2 -IN (in), 3 +IN (in), 4 V- (power), 5 OVERCOMP, 6 OUT (out), 7 V+ (power), 8 VOS TRIM (in)

## LT1028CS8#PBF
designator U?
Single Channel, Low Noise, Low Drift Operational Amplifier, 75 MHz Typical GBW, 15 V/us Typical SR, 8 to 44 V, 8-Pin SOIC (S8-8), Commerical, Pb-Free; Linear Technology Part Number: LT1028; Manufacturer: Linear Technology; PartNumber: LT1028CS8#PBF; Channels (#): 1; GBW (MHz) Typical: 75; Is (mA) Typical: 7.4; SR (V/us) Typical: 15; Vos (mV) Typical: 0.01; Vs Max (V): 44; Vs Min (V): 8; DatasheetVersion: Rev. B; PackageVersion: Rev G; PackageReference: LT-S8-8; PackageDescription: 8-Pin Plastic Small Outline, Body 4.9 x 3.9 mm, Pitch 1.27 mm; Supplier 1: Digi-Key; Supplier Part Number 1: LT1028CS8#PBF-ND; Supplier 2: Farnell; Supplier Part Number 2: 9559493; Supplier 3: Newark; Supplier Part Number 3: 57M1061; RoHS: Pb-Free; Type: VFB; Mounting Technology: Surface Mount; ComponentLink1Description: Manufacturer URL; ComponentLink1URL: http://www.linear.com/; ComponentLink2Description: Datasheet; ComponentLink2URL: http://cds.linear.com/docs/en/datasheet/1028fb.pdf; ComponentLink3Description: Package Specification; ComponentLink3URL: http://cds.linear.com/docs/en/packaging/05081610_G_SO8.pdf
footprint LT-S8-8_N (SOIC, 8-Leads, Body 4.9x3.9mm, Pitch 1.27mm, IPC Medium Density)
footprint LT-S8-8_L (SOIC, 8-Leads, Body 4.9x3.9mm, Pitch 1.27mm, IPC High Density)
footprint LT-S8-8_M (SOIC, 8-Leads, Body 4.9x3.9mm, Pitch 1.27mm, IPC Low Density)
pins: 1 VOS TRIM (in), 2 -IN (in), 3 +IN (in), 4 V- (power), 5 OVERCOMP, 6 OUT (out), 7 V+ (power), 8 VOS TRIM (in)

## LT1028CS8#TR
designator U?
Single Channel, Low Noise, Low Drift Operational Amplifier, 75 MHz Typical GBW, 15 V/us Typical SR, 8 to 44 V, 8-Pin SOIC (S8-8), Commerical, Reel; Linear Technology Part Number: LT1028; Manufacturer: Linear Technology; PartNumber: LT1028CS8#TR; Channels (#): 1; GBW (MHz) Typical: 75; Is (mA) Typical: 7.4; SR (V/us) Typical: 15; Vos (mV) Typical: 0.01; Vs Max (V): 44; Vs Min (V): 8; DatasheetVersion: Rev. B; PackageVersion: Rev G; PackageReference: LT-S8-8; PackageDescription: 8-Pin Plastic Small Outline, Body 4.9 x 3.9 mm, Pitch 1.27 mm; Supplier 1: Digi-Key; Supplier Part Number 1: LT1028CS8#TR-ND; Packing: Reel; Type: VFB; Mounting Technology: Surface Mount; ComponentLink1Description: Manufacturer URL; ComponentLink1URL: http://www.linear.com/; ComponentLink2Description: Datasheet; ComponentLink2URL: http://cds.linear.com/docs/en/datasheet/1028fb.pdf; ComponentLink3Description: Package Specification; ComponentLink3URL: http://cds.linear.com/docs/en/packaging/05081610_G_SO8.pdf
footprint LT-S8-8_N (SOIC, 8-Leads, Body 4.9x3.9mm, Pitch 1.27mm, IPC Medium Density)
footprint LT-S8-8_L (SOIC, 8-Leads, Body 4.9x3.9mm, Pitch 1.27mm, IPC High Density)
footprint LT-S8-8_M (SOIC, 8-Leads, Body 4.9x3.9mm, Pitch 1.27mm, IPC Low Density)
pins: 1 VOS TRIM (in), 2 -IN (in), 3 +IN (in), 4 V- (power), 5 OVERCOMP, 6 OUT (out), 7 V+ (power), 8 VOS TRIM (in)

## LT1028CS8#TRPBF
designator U?
Single Channel, Low Noise, Low Drift Operational Amplifier, 75 MHz Typical GBW, 15 V/us Typical SR, 8 to 44 V, 8-Pin SOIC (S8-8), Commerical, Pb-Free, Reel; Linear Technology Part Number: LT1028; Manufacturer: Linear Technology; PartNumber: LT1028CS8#TRPBF; Channels (#): 1; GBW (MHz) Typical: 75; Is (mA) Typical: 7.4; SR (V/us) Typical: 15; Vos (mV) Typical: 0.01; Vs Max (V): 44; Vs Min (V): 8; DatasheetVersion: Rev. B; PackageVersion: Rev G; PackageReference: LT-S8-8; PackageDescription: 8-Pin Plastic Small Outline, Body 4.9 x 3.9 mm, Pitch 1.27 mm; Supplier 1: Digi-Key; Supplier Part Number 1: LT1028CS8#TRPBF-ND; Supplier 2: Newark; Supplier Part Number 2: 57M1063; Packing: Reel; RoHS: Pb-Free; Type: VFB; Mounting Technology: Surface Mount; ComponentLink1Description: Manufacturer URL; ComponentLink1URL: http://www.linear.com/; ComponentLink2Description: Datasheet; ComponentLink2URL: http://cds.linear.com/docs/en/datasheet/1028fb.pdf; ComponentLink3Description: Package Specification; ComponentLink3URL: http://cds.linear.com/docs/en/packaging/05081610_G_SO8.pdf
footprint LT-S8-8_N (SOIC, 8-Leads, Body 4.9x3.9mm, Pitch 1.27mm, IPC Medium Density)
footprint LT-S8-8_L (SOIC, 8-Leads, Body 4.9x3.9mm, Pitch 1.27mm, IPC High Density)
footprint LT-S8-8_M (SOIC, 8-Leads, Body 4.9x3.9mm, Pitch 1.27mm, IPC Low Density)
pins: 1 VOS TRIM (in), 2 -IN (in), 3 +IN (in), 4 V- (power), 5 OVERCOMP, 6 OUT (out), 7 V+ (power), 8 VOS TRIM (in)

## LT1037ACN8
designator U?
Single Channel, Extremely low noise Operational Amplifier, 60 MHz Typical GBW, 15 V/us Typical SR, 8 to 44 V, 8-Pin DIP (N8-8), Commerical; Linear Technology Part Number: LT1037; Manufacturer: Linear Technology; PartNumber: LT1037ACN8; Channels (#): 1; GBW (MHz) Typical: 60; Is (mA) Typical: 2.6; SR (V/us) Typical: 15; Vos (mV) Typical: 0.01; Vs Max (V): 44; Vs Min (V): 8; DatasheetVersion: Rev. B; PackageVersion: Rev I; PackageReference: LT-N8-8; PackageDescription: 8-Lead PDIP, Body 10.16 x 6.48 mm, Pitch 2.54 mm; Supplier 1: Digi-Key; Supplier Part Number 1: LT1037ACN8-ND; Type: VFB; Mounting Technology: Through Hole; ComponentLink1Description: Manufacturer URL; ComponentLink1URL: http://www.linear.com/; ComponentLink2Description: Datasheet; ComponentLink2URL: http://cds.linear.com/docs/en/datasheet/100737fbs.pdf; ComponentLink3Description: Package Specification; ComponentLink3URL: http://cds.linear.com/docs/en/packaging/05081510_I_N8.pdf
footprint LT-N8-8 (DIP, 8-Leads, Body 10.16x6.48mm, Pitch 2.54mm)
pins: 1 VOS TRIM (in), 2 -IN (in), 3 +IN (in), 4 V- (power), 5 NC, 6 OUT (out), 7 V+ (power), 8 VOS TRIM (in)

## LT1037ACN8#PBF
designator U?
Single Channel, Extremely low noise Operational Amplifier, 60 MHz Typical GBW, 15 V/us Typical SR, 8 to 44 V, 8-Pin DIP (N8-8), Commerical, Pb-Free; Linear Technology Part Number: LT1037; Manufacturer: Linear Technology; PartNumber: LT1037ACN8#PBF; Channels (#): 1; GBW (MHz) Typical: 60; Is (mA) Typical: 2.6; SR (V/us) Typical: 15; Vos (mV) Typical: 0.01; Vs Max (V): 44; Vs Min (V): 8; DatasheetVersion: Rev. B; PackageVersion: Rev I; PackageReference: LT-N8-8; PackageDescription: 8-Lead PDIP, Body 10.16 x 6.48 mm, Pitch 2.54 mm; Supplier 1: Digi-Key; Supplier Part Number 1: LT1037ACN8#PBF-ND; Supplier 2: Farnell; Supplier Part Number 2: 2191695; Supplier 3: Newark; Supplier Part Number 3: 57M1141; RoHS: Pb-Free; Type: VFB; Mounting Technology: Through Hole; ComponentLink1Description: Manufacturer URL; ComponentLink1URL: http://www.linear.com/; ComponentLink2Description: Datasheet; ComponentLink2URL: http://cds.linear.com/docs/en/datasheet/100737fbs.pdf; ComponentLink3Description: Package Specification; ComponentLink3URL: http://cds.linear.com/docs/en/packaging/05081510_I_N8.pdf
footprint LT-N8-8 (DIP, 8-Leads, Body 10.16x6.48mm, Pitch 2.54mm)
pins: 1 VOS TRIM (in), 2 -IN (in), 3 +IN (in), 4 V- (power), 5 NC, 6 OUT (out), 7 V+ (power), 8 VOS TRIM (in)

## LT1037CN8
designator U?
Single Channel, Extremely low noise Operational Amplifier, 60 MHz Typical GBW, 15 V/us Typical SR, 8 to 44 V, 8-Pin DIP (N8-8), Commerical; Linear Technology Part Number: LT1037; Manufacturer: Linear Technology; PartNumber: LT1037CN8; Channels (#): 1; GBW (MHz) Typical: 60; Is (mA) Typical: 2.6; SR (V/us) Typical: 15; Vos (mV) Typical: 0.01; Vs Max (V): 44; Vs Min (V): 8; DatasheetVersion: Rev. B; PackageVersion: Rev I; PackageReference: LT-N8-8; PackageDescription: 8-Lead PDIP, Body 10.16 x 6.48 mm, Pitch 2.54 mm; Supplier 1: Digi-Key; Supplier Part Number 1: LT1037CN8-ND; Type: VFB; Mounting Technology: Through Hole; ComponentLink1Description: Manufacturer URL; ComponentLink1URL: http://www.linear.com/; ComponentLink2Description: Datasheet; ComponentLink2URL: http://cds.linear.com/docs/en/datasheet/100737fbs.pdf; ComponentLink3Description: Package Specification; ComponentLink3URL: http://cds.linear.com/docs/en/packaging/05081510_I_N8.pdf
footprint LT-N8-8 (DIP, 8-Leads, Body 10.16x6.48mm, Pitch 2.54mm)
pins: 1 VOS TRIM (in), 2 -IN (in), 3 +IN (in), 4 V- (power), 5 NC, 6 OUT (out), 7 V+ (power), 8 VOS TRIM (in)

## LT1037CN8#PBF
designator U?
Single Channel, Extremely low noise Operational Amplifier, 60 MHz Typical GBW, 15 V/us Typical SR, 8 to 44 V, 8-Pin DIP (N8-8), Commerical, Pb-Free; Linear Technology Part Number: LT1037; Manufacturer: Linear Technology; PartNumber: LT1037CN8#PBF; Channels (#): 1; GBW (MHz) Typical: 60; Is (mA) Typical: 2.6; SR (V/us) Typical: 15; Vos (mV) Typical: 0.01; Vs Max (V): 44; Vs Min (V): 8; DatasheetVersion: Rev. B; PackageVersion: Rev I; PackageReference: LT-N8-8; PackageDescription: 8-Lead PDIP, Body 10.16 x 6.48 mm, Pitch 2.54 mm; Supplier 1: Digi-Key; Supplier Part Number 1: LT1037CN8#PBF-ND; Supplier 2: Farnell; Supplier Part Number 2: 2211384; Supplier 3: Newark; Supplier Part Number 3: 57M1143; RoHS: Pb-Free; Type: VFB; Mounting Technology: Surface Mount; ComponentLink1Description: Manufacturer URL; ComponentLink1URL: http://www.linear.com/; ComponentLink2Description: Datasheet; ComponentLink2URL: http://cds.linear.com/docs/en/datasheet/100737fbs.pdf; ComponentLink3Description: Package Specification; ComponentLink3URL: http://cds.linear.com/docs/en/packaging/05081510_I_N8.pdf
footprint LT-N8-8 (DIP, 8-Leads, Body 10.16x6.48mm, Pitch 2.54mm)
pins: 1 VOS TRIM (in), 2 -IN (in), 3 +IN (in), 4 V- (power), 5 NC, 6 OUT (out), 7 V+ (power), 8 VOS TRIM (in)

## LT1037CS8
designator U?
Single Channel, Extremely low noise Operational Amplifier, 60 MHz Typical GBW, 15 V/us Typical SR, 8 to 44 V, 8-Pin SOIC (S8-8), Commerical; Linear Technology Part Number: LT1037; Manufacturer: Linear Technology; PartNumber: LT1037CS8; Channels (#): 1; GBW (MHz) Typical: 60; Is (mA) Typical: 2.6; SR (V/us) Typical: 15; Vos (mV) Typical: 0.01; Vs Max (V): 44; Vs Min (V): 8; DatasheetVersion: Rev. B; PackageVersion: Rev G; PackageReference: LT-S8-8; PackageDescription: 8-Pin Plastic Small Outline, Body 4.9 x 3.9 mm, Pitch 1.27 mm; Supplier 1: Digi-Key; Supplier Part Number 1: LT1037CS8-ND; Type: VFB; Mounting Technology: Surface Mount; ComponentLink1Description: Manufacturer URL; ComponentLink1URL: http://www.linear.com/; ComponentLink2Description: Datasheet; ComponentLink2URL: http://cds.linear.com/docs/en/datasheet/100737fbs.pdf; ComponentLink3Description: Package Specification; ComponentLink3URL: http://cds.linear.com/docs/en/packaging/05081610_G_SO8.pdf
footprint LT-S8-8_N (SOIC, 8-Leads, Body 4.9x3.9mm, Pitch 1.27mm, IPC Medium Density)
footprint LT-S8-8_L (SOIC, 8-Leads, Body 4.9x3.9mm, Pitch 1.27mm, IPC High Density)
footprint LT-S8-8_M (SOIC, 8-Leads, Body 4.9x3.9mm, Pitch 1.27mm, IPC Low Density)
pins: 1 VOS TRIM (in), 2 -IN (in), 3 +IN (in), 4 V- (power), 5 NC, 6 OUT (out), 7 V+ (power), 8 VOS TRIM (in)

## LT1037CS8#PBF
designator U?
Single Channel, Extremely low noise Operational Amplifier, 60 MHz Typical GBW, 15 V/us Typical SR, 8 to 44 V, 8-Pin SOIC (S8-8), Commerical, Pb-Free; Linear Technology Part Number: LT1037; Manufacturer: Linear Technology; PartNumber: LT1037CS8#PBF; Channels (#): 1; GBW (MHz) Typical: 60; Is (mA) Typical: 2.6; SR (V/us) Typical: 15; Vos (mV) Typical: 0.01; Vs Max (V): 44; Vs Min (V): 8; DatasheetVersion: Rev. B; PackageVersion: Rev G; PackageReference: LT-S8-8; PackageDescription: 8-Pin Plastic Small Outline, Body 4.9 x 3.9 mm, Pitch 1.27 mm; Supplier 1: Digi-Key; Supplier Part Number 1: LT1037CS8#PBF-ND; Supplier 2: Newark; Supplier Part Number 2: 57M1145; RoHS: Pb-Free; Type: VFB; Mounting Technology: Surface Mount; ComponentLink1Description: Manufacturer URL; ComponentLink1URL: http://www.linear.com/; ComponentLink2Description: Datasheet; ComponentLink2URL: http://cds.linear.com/docs/en/datasheet/100737fbs.pdf; ComponentLink3Description: Package Specification; ComponentLink3URL: http://cds.linear.com/docs/en/packaging/05081610_G_SO8.pdf
footprint LT-S8-8_N (SOIC, 8-Leads, Body 4.9x3.9mm, Pitch 1.27mm, IPC Medium Density)
footprint LT-S8-8_L (SOIC, 8-Leads, Body 4.9x3.9mm, Pitch 1.27mm, IPC High Density)
footprint LT-S8-8_M (SOIC, 8-Leads, Body 4.9x3.9mm, Pitch 1.27mm, IPC Low Density)
pins: 1 VOS TRIM (in), 2 -IN (in), 3 +IN (in), 4 V- (power), 5 NC, 6 OUT (out), 7 V+ (power), 8 VOS TRIM (in)